# EAGLE library part IV-22 (library Russian-VFD-tubes)
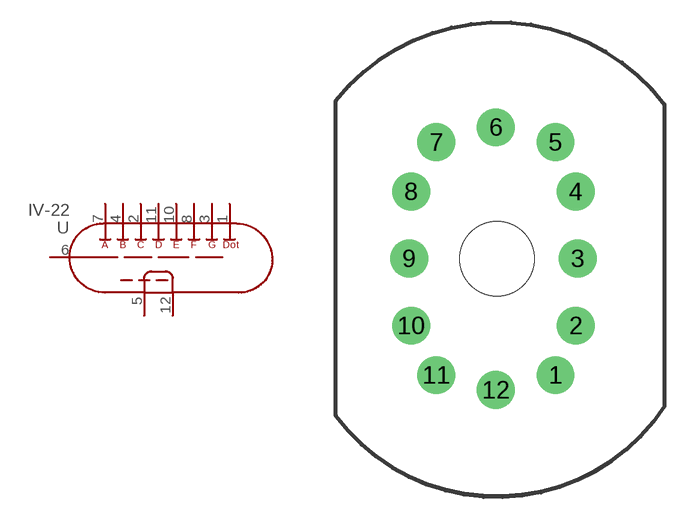
[diagram p3: symbol with the pads of IV-22; footprint IV-22]

Designator prefix -

## IV-22  [IV-22]
1  DP
2  C
3  G
4  B
5  FLIL_-
6  CONTROLL
7  A
8  F
10  E
11  D
12  FIL_+

## Footprint IV-22 (pad centres in mm)
May be used with socket: SK-136
drill 1.1 pad 2.54: 1 3.937,-7.817; 2 5.301,-4.5; 3 5.428,0; 4 5.301,4.5; 5 3.937,7.817; 6 -0.064,8.818; 7 -4.064,7.817; 8 -5.746,4.5; 9 -5.873,0; 10 -5.746,-4.5; 11 -4.064,-7.817; 12 -0.064,-8.818
hole 5 at 0,0